# Altium integrated library MCP3201-CI_P.IntLib: 1 symbol
Pins are listed as number, name and electrical type; pins without a type are passive.

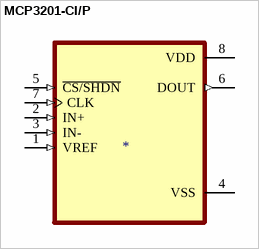
[diagram p0: symbol MCP3201-CI/P]

## MCP3201-CI/P
designator ?
12 Bit Analog to Digital Converter 1 Input 1 SAR 8-PDIP; MP: MCP3201-CI/P; MF: Microchip; Price: None; Availability: Unavailable; Value: *; SnapEDA_Link: https://www.snapeda.com/parts/MCP3201-CI/P/Microchip/view-part/228355/?ref=snap; Package: DIP-8 Microchip
footprint DIP787W46P254L927H533Q8
pins: 1 VREF (in), 2 IN+ (in), 3 IN- (in), 4 VSS (power), 5 ~{CS/SHDN} (in), 6 DOUT (out), 7 CLK (in), 8 VDD (power)